# Altium footprint library STPS1L40M.PcbLib: 1 footprints
Each footprint in its own frame and in the unit in brackets; x right, y up, seen from the top. Pads: shape width x height; smd on the part's side, far side on the other; paste and mask are expansions set on the pad; w line width, h text height; cw(c..) or ccw(c..) is an arc to the next point about the centre after c.
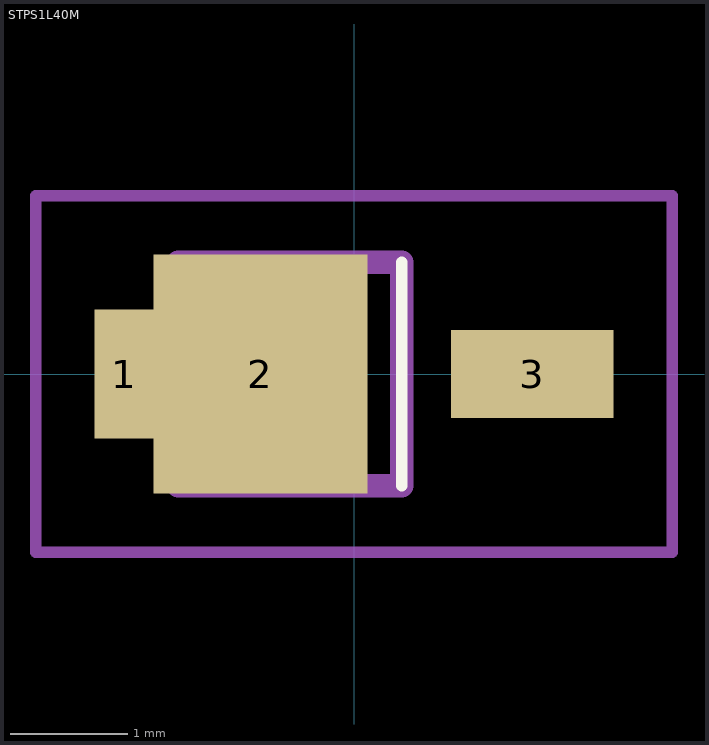
[diagram p0: the footprint, top view; thin cyan lines are the x and y axes]

## STPS1L40M [mm]
pads (3):
  rect 0.5x1.1 smd: 1(-1.955,0)
  rect 1.82x2.03 smd: 2(-0.795,0)
  rect 1.38x0.75 smd: 3(1.515,0)
Top Overlay:
  lines w0.1: 0.405,-0.95 0.405,0.95
Mechanical 15:
  lines w0.2: -1.495,-0.95 0.405,-0.95 0.405,0.95 -1.495,0.95 -1.495,-0.95
Mechanical 20:
  lines w0.1: -2.705,-1.515 2.705,-1.515 2.705,1.515 -2.705,1.515 -2.705,-1.515